# EAGLE library part KEYPAD_RGB (library mnm_rgb)
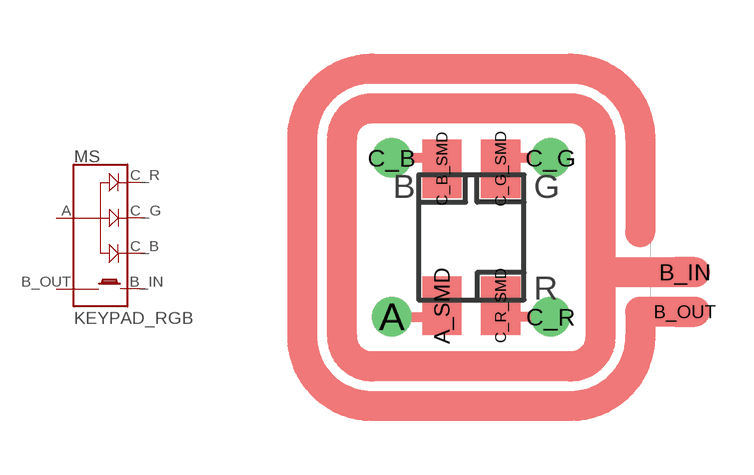
[diagram p0: symbol with the pads of KEYPAD-RGB; footprint KEYPAD-RGB]

Designator prefix MS

## KEYPAD_RGB  [KEYPAD-RGB]
A  ANODE
B_IN  BTN_1
B_OUT  BTN_0
C_B  BLUE
C_G  GREEN
C_R  RED

## Footprint KEYPAD-RGB (pad centres in mm)
drill 0.5 round: A -2.032,-2.032; C_B -2.032,2.032; C_G 2.032,2.032; C_R 2.032,-2.032
smd 1 x 1.5: A_SMD -0.75,-1.75; C_B_SMD -0.75,1.75; C_G_SMD 0.75,1.75; C_R_SMD 0.75,-1.75
smd 1.27 x 0.762: B_IN 5.461,-0.889; B_OUT 5.461,-1.905